# Altium integrated library TI Data Converters Analog to Digital Converter.IntLib: 2198 symbols (part 75 of 164)
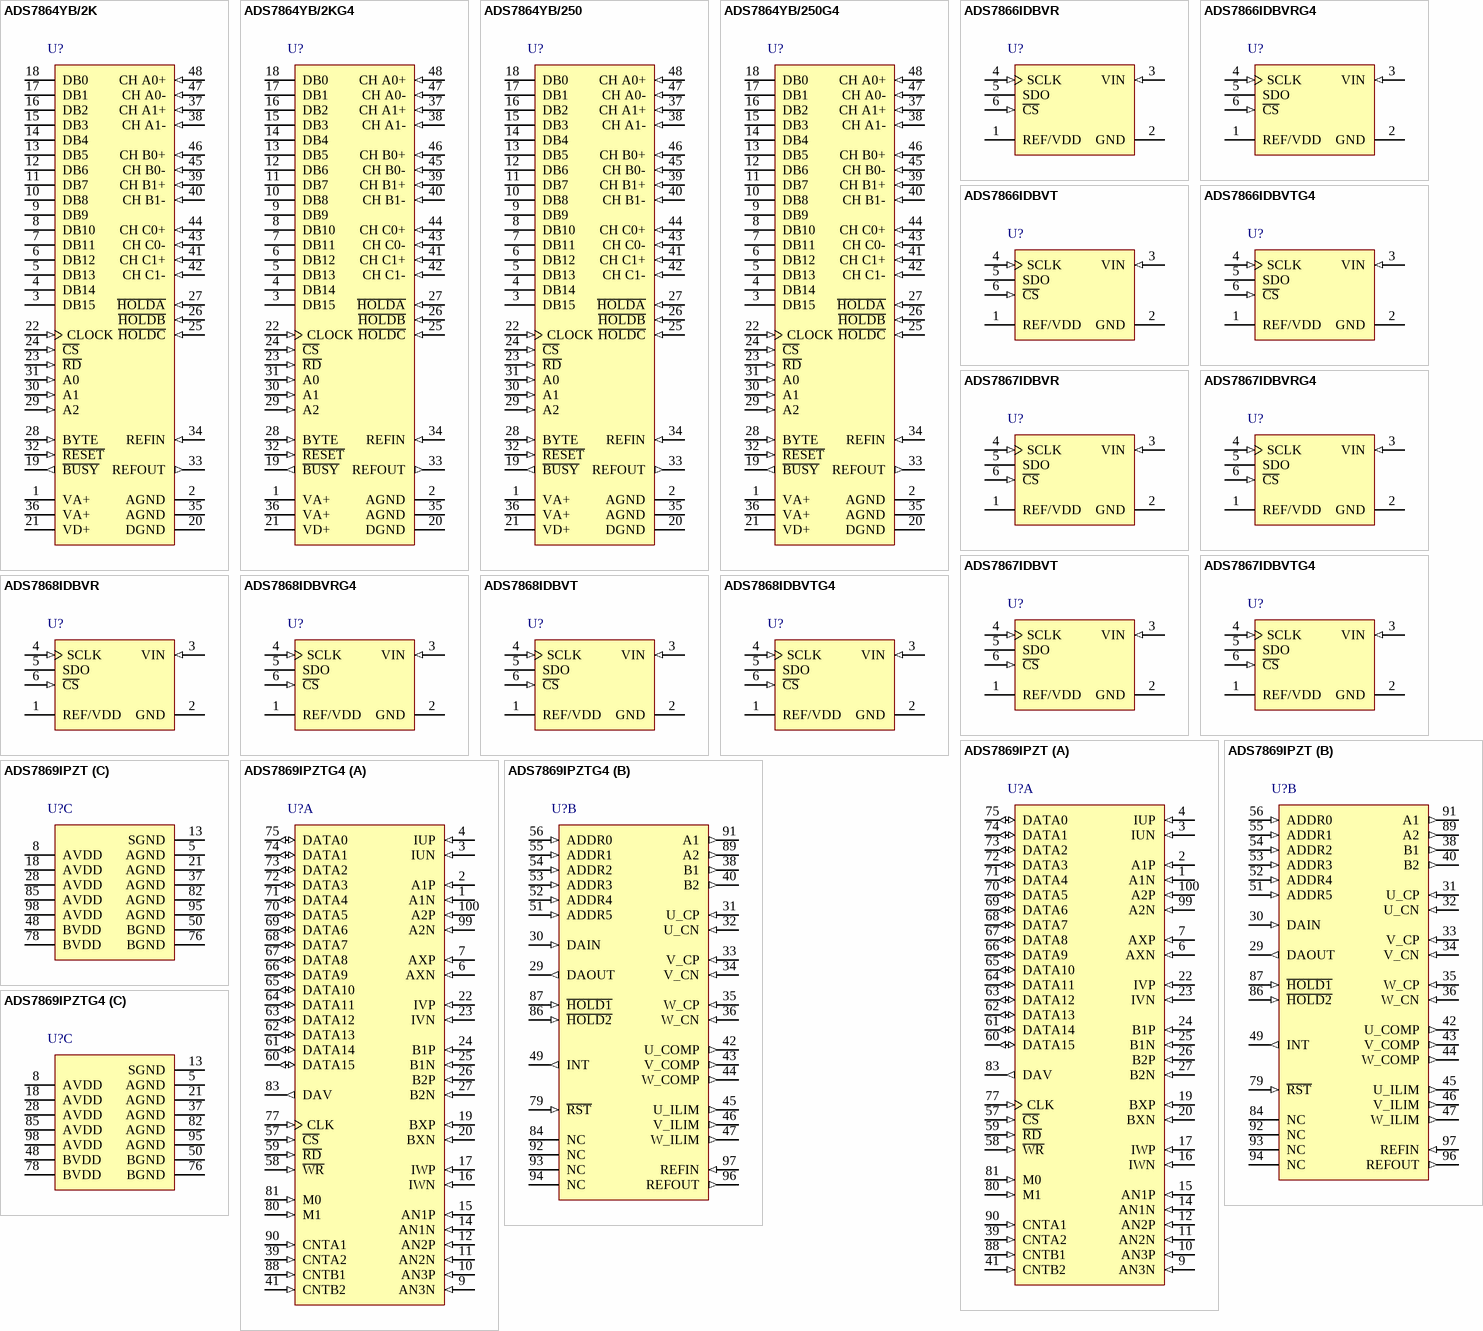
[diagram p200: symbols ADS7864YB/2K to ADS7869IPZTG4]

## ADS7864YB/250G4
designator U?
500 kHz, 12-Bit, 6-Channel Simultaneous Sampling ADC, -40 to 85 degC, 48-pin QFP (PFB48), Green (RoHS & no Sb/Br); Manufacturer: Texas Instruments; PartNumber: ADS7864YB/250G4; # Input Channels: 6; Analog Voltage AV/DD(Max)(V): 5.25; Analog Voltage AV/DD(Min)(V): 4.75; Architecture: SAR; INL(Max)(+/-LSB): 1; Interface: Parallel CMOS; Resolution(Bits): 12; Sample Rate (max)(SPS): 500k; SFDR(dB): 78; SINAD(dB): 71; SubFamily: Precision ADC (<=10MSPS); DatasheetVersion: SBAS141A; PackageVersion: 4073176/B, 10/1996; PackageReference: PFB48; PackageDescription: 48-Pin Plastic Flat Pack, Body 7 x 7 mm, Pitch 0.5 mm; Supplier 1: Digi-Key; Supplier Part Number 1: ADS7862YB/2K-ND; Digital Supply(Max)(V): 5.25; Digital Supply(Min)(V): 4.75; Eco-Plan: Green (RoHS & no Sb/Br); Mounting Technology: Surface Mount; Code_JEDEC: MS-026; ComponentLink1Description: Manufacturer URL; ComponentLink1URL: http://www.ti.com/; ComponentLink2Description: Datasheet; ComponentLink2URL: http://www.ti.com/general/docs/lit/getliterature.tsp?genericPartNumber=ADS7864&fileType=pdf; ComponentLink3Description: Package Specification; ComponentLink3URL: http://www.ti.com/lit/ml/mtqf019a/mtqf019a.pdf
footprint TI-PFB48_N (QFP, 48-Leads, Body 7x7mm, Pitch 0.5mm, IPC Medium Density)
footprint TI-PFB48_L (QFP, 48-Leads, Body 7x7mm, Pitch 0.5mm, IPC High Density)
footprint TI-PFB48_M (QFP, 48-Leads, Body 7x7mm, Pitch 0.5mm, IPC Low Density)
pins: 1 VA+ (power) "Analog Power Supply. Normally +5V.", 2 AGND (power) "Analog Ground", 3 DB15 (hiz) "Data Valid Output: ‘1’ for data valid; ‘0’ for invalid data.", 4 DB14 (hiz) "Channel Address Output Pin (see Table 2)", 5 DB13 (hiz) "Channel Address Output Pin (see Table 2)", 6 DB12 (hiz) "Channel Address Output Pin (see Table 2)", 7 DB11 (hiz) "Data Bit 11 - MSB", 8 DB10 (hiz) "Data Bit 10", 9 DB9 (hiz) "Data Bit 9", 10 DB8 (hiz) "Data Bit 8", 11 DB7 (hiz) "Data Bit 7", 12 DB6 (hiz) "Data Bit 6", 13 DB5 (hiz) "Data Bit 5", 14 DB4 (hiz) "Data Bit 4", 15 DB3 (hiz) "Data Bit 3", 16 DB2 (hiz) "Data Bit 2", 17 DB1 (hiz) "Data Bit 1", 18 DB0 (hiz) "Data Bit 0 - LSB", 19 ~{BUSY} (out) "Low when a conversion is in progress.", 20 DGND (power) "Digital Ground", 21 VD+ (power) "Digital Power Supply, +5VDC", 22 CLOCK (in) "An external clock must be applied to the CLOCK input.", 23 ~{RD} (in) "RD Input. Enables the parallel output when used in conjunction with chip select.", 24 ~{CS} (in) "Chip Select", 25 ~{HOLDC} (in) "Places Channels C0 and C1 in hold mode.", 26 ~{HOLDB} (in) "Places Channels B0 and B1 in hold mode.", 27 ~{HOLDA} (in) "Places Channels A0 and A1 in hold mode.", 28 BYTE (in) "2 x 8 Output Capability. Active high.", 29 A2 (in) "A2 Address/Mode Select Pin (see Table 3).", 30 A1 (in) "A1 Address/Mode Select Pin (see Table 3).", 31 A0 (in) "A0 Address/Mode Select Pin (see Table 3).", 32 ~{RESET} (in) "Reset Pin", 33 REFOUT (out) "Reference Out", 34 REFIN (in) "Reference In", 35 AGND (power) "Analog Ground", 36 VA+ (power) "Analog Power Supply. Normally +5V.", 37 CH A1+ (in) "Noninverting Input Channel A1", 38 CH A1- (in) "Inverting Input Channel A1", 39 CH B1+ (in) "Noninverting Input Channel B1", 40 CH B1- (in) "Inverting Input Channel B1", 41 CH C1+ (in) "Noninverting Input Channel C1", 42 CH C1- (in) "Inverting Input Channel C1", 43 CH C0- (in) "Inverting Input Channel C0", 44 CH C0+ (in) "Noninverting Input Channel C0", 45 CH B0- (in) "Inverting Input Channel B0", 46 CH B0+ (in) "Noninverting Input Channel B0", 47 CH A0- (in) "Inverting Input Channel A0", 48 CH A0+ (in) "Noninverting Input Channel A0"

## ADS7866IDBVR
designator U?
1.2 V, 12-Bit 200 kSPS, Serial ADC, -40 to 85 degC, 6-pin SOT23 (DBV6), Green (RoHS & no Sb/Br); Manufacturer: Texas Instruments; PartNumber: ADS7866IDBVR; # Input Channels: 1; Analog Voltage AV/DD(Max)(V): 3.6; Analog Voltage AV/DD(Min)(V): 1.2; Architecture: SAR; INL(Max)(+/-LSB): 1.5; Interface: Serial SPI; Resolution(Bits): 12; Sample Rate (max)(SPS): 200k; SFDR(dB): 85; SINAD(dB): 70; SNR(dB): 71; SubFamily: Precision ADC (<=10MSPS); DatasheetVersion: SLAS465; PackageVersion: 4073253-5/K, 03/2006; PackageReference: DBV6; PackageDescription: 6-Pin Plastic Small Outline, Body 1.6 x 2.9 mm, Pitch 0.95 mm; Supplier 1: Digi-Key; Supplier Part Number 1: ADS7862YB/2KG4-ND; Digital Supply(Max)(V): 3.6; Digital Supply(Min)(V): 1.2; Eco-Plan: Green (RoHS & no Sb/Br); Mounting Technology: Surface Mount; Code_JEDEC: MO-178; ComponentLink1Description: Manufacturer URL; ComponentLink1URL: http://www.ti.com/; ComponentLink2Description: Datasheet; ComponentLink2URL: http://www.ti.com/general/docs/lit/getliterature.tsp?genericPartNumber=ADS7866&fileType=pdf; ComponentLink3Description: Package Specification; ComponentLink3URL: http://www.ti.com/litv/pdf/mpds026h
footprint TI-DBV6_N (SOT23, 6-Leads, Body 2.9x1.6mm, Pitch 0.95mm, IPC Medium Density)
footprint TI-DBV6_L (SOT23, 6-Leads, Body 2.9x1.6mm, Pitch 0.95mm, IPC High Density)
footprint TI-DBV6_M (SOT23, 6-Leads, Body 2.9x1.6mm, Pitch 0.95mm, IPC Low Density)
pins: 1 REF/VDD (power) "External reference input and power supply", 2 GND (power) "Ground for signal and power supply. All analog and digital signals are referred with respect to this pin.", 3 VIN (in) "Analog signal input", 4 SCLK (in) "Serial clock input. This clock is used for clocking data out, and it is the source of conversion clock.", 5 SDO (hiz) "This is the serial data output of the conversion result. The serial stream comes with MSB first. The MSB is clocked out (changed) on the falling edge one SCLK after the sampling period ends. This results in four leading (See Datasheet)", 6 ~{CS} (in) "This is an active low input signal. It is used as a chip select to gate the SCLK input, to initiate a conversion, and to frame output data."

## ADS7866IDBVRG4
designator U?
1.2 V, 12-Bit 200 kSPS, Serial ADC, -40 to 85 degC, 6-pin SOT23 (DBV6), Green (RoHS & no Sb/Br); Manufacturer: Texas Instruments; PartNumber: ADS7866IDBVRG4; # Input Channels: 1; Analog Voltage AV/DD(Max)(V): 3.6; Analog Voltage AV/DD(Min)(V): 1.2; Architecture: SAR; INL(Max)(+/-LSB): 1.5; Interface: Serial SPI; Resolution(Bits): 12; Sample Rate (max)(SPS): 200k; SFDR(dB): 85; SINAD(dB): 70; SNR(dB): 71; SubFamily: Precision ADC (<=10MSPS); DatasheetVersion: SLAS465; PackageVersion: 4073253-5/K, 03/2006; PackageReference: DBV6; PackageDescription: 6-Pin Plastic Small Outline, Body 1.6 x 2.9 mm, Pitch 0.95 mm; Supplier 1: Digi-Key; Supplier Part Number 1: ADS7835ETR-ND; Digital Supply(Max)(V): 3.6; Digital Supply(Min)(V): 1.2; Eco-Plan: Green (RoHS & no Sb/Br); Mounting Technology: Surface Mount; Code_JEDEC: MO-178; ComponentLink1Description: Manufacturer URL; ComponentLink1URL: http://www.ti.com/; ComponentLink2Description: Datasheet; ComponentLink2URL: http://www.ti.com/general/docs/lit/getliterature.tsp?genericPartNumber=ADS7866&fileType=pdf; ComponentLink3Description: Package Specification; ComponentLink3URL: http://www.ti.com/litv/pdf/mpds026h
footprint TI-DBV6_N (SOT23, 6-Leads, Body 2.9x1.6mm, Pitch 0.95mm, IPC Medium Density)
footprint TI-DBV6_L (SOT23, 6-Leads, Body 2.9x1.6mm, Pitch 0.95mm, IPC High Density)
footprint TI-DBV6_M (SOT23, 6-Leads, Body 2.9x1.6mm, Pitch 0.95mm, IPC Low Density)
pins: 1 REF/VDD (power) "External reference input and power supply", 2 GND (power) "Ground for signal and power supply. All analog and digital signals are referred with respect to this pin.", 3 VIN (in) "Analog signal input", 4 SCLK (in) "Serial clock input. This clock is used for clocking data out, and it is the source of conversion clock.", 5 SDO (hiz) "This is the serial data output of the conversion result. The serial stream comes with MSB first. The MSB is clocked out (changed) on the falling edge one SCLK after the sampling period ends. This results in four leading (See Datasheet)", 6 ~{CS} (in) "This is an active low input signal. It is used as a chip select to gate the SCLK input, to initiate a conversion, and to frame output data."

## ADS7866IDBVT
designator U?
1.2 V, 12-Bit 200 kSPS, Serial ADC, -40 to 85 degC, 6-pin SOT23 (DBV6), Green (RoHS & no Sb/Br); Manufacturer: Texas Instruments; PartNumber: ADS7866IDBVT; # Input Channels: 1; Analog Voltage AV/DD(Max)(V): 3.6; Analog Voltage AV/DD(Min)(V): 1.2; Architecture: SAR; INL(Max)(+/-LSB): 1.5; Interface: Serial SPI; Resolution(Bits): 12; Sample Rate (max)(SPS): 200k; SFDR(dB): 85; SINAD(dB): 70; SNR(dB): 71; SubFamily: Precision ADC (<=10MSPS); DatasheetVersion: SLAS465; PackageVersion: 4073253-5/K, 03/2006; PackageReference: DBV6; PackageDescription: 6-Pin Plastic Small Outline, Body 1.6 x 2.9 mm, Pitch 0.95 mm; Supplier 1: Digi-Key; Supplier Part Number 1: ADS7835E/250G4-ND; Digital Supply(Max)(V): 3.6; Digital Supply(Min)(V): 1.2; Eco-Plan: Green (RoHS & no Sb/Br); Mounting Technology: Surface Mount; Code_JEDEC: MO-178; ComponentLink1Description: Manufacturer URL; ComponentLink1URL: http://www.ti.com/; ComponentLink2Description: Datasheet; ComponentLink2URL: http://www.ti.com/general/docs/lit/getliterature.tsp?genericPartNumber=ADS7866&fileType=pdf; ComponentLink3Description: Package Specification; ComponentLink3URL: http://www.ti.com/litv/pdf/mpds026h
footprint TI-DBV6_N (SOT23, 6-Leads, Body 2.9x1.6mm, Pitch 0.95mm, IPC Medium Density)
footprint TI-DBV6_L (SOT23, 6-Leads, Body 2.9x1.6mm, Pitch 0.95mm, IPC High Density)
footprint TI-DBV6_M (SOT23, 6-Leads, Body 2.9x1.6mm, Pitch 0.95mm, IPC Low Density)
pins: 1 REF/VDD (power) "External reference input and power supply", 2 GND (power) "Ground for signal and power supply. All analog and digital signals are referred with respect to this pin.", 3 VIN (in) "Analog signal input", 4 SCLK (in) "Serial clock input. This clock is used for clocking data out, and it is the source of conversion clock.", 5 SDO (hiz) "This is the serial data output of the conversion result. The serial stream comes with MSB first. The MSB is clocked out (changed) on the falling edge one SCLK after the sampling period ends. This results in four leading (See Datasheet)", 6 ~{CS} (in) "This is an active low input signal. It is used as a chip select to gate the SCLK input, to initiate a conversion, and to frame output data."

## ADS7866IDBVTG4
designator U?
1.2 V, 12-Bit 200 kSPS, Serial ADC, -40 to 85 degC, 6-pin SOT23 (DBV6), Green (RoHS & no Sb/Br); Manufacturer: Texas Instruments; PartNumber: ADS7866IDBVTG4; # Input Channels: 1; Analog Voltage AV/DD(Max)(V): 3.6; Analog Voltage AV/DD(Min)(V): 1.2; Architecture: SAR; INL(Max)(+/-LSB): 1.5; Interface: Serial SPI; Resolution(Bits): 12; Sample Rate (max)(SPS): 200k; SFDR(dB): 85; SINAD(dB): 70; SNR(dB): 71; SubFamily: Precision ADC (<=10MSPS); DatasheetVersion: SLAS465; PackageVersion: 4073253-5/K, 03/2006; PackageReference: DBV6; PackageDescription: 6-Pin Plastic Small Outline, Body 1.6 x 2.9 mm, Pitch 0.95 mm; Supplier 1: Digi-Key; Supplier Part Number 1: ADS7835E/2K5-ND; Digital Supply(Max)(V): 3.6; Digital Supply(Min)(V): 1.2; Eco-Plan: Green (RoHS & no Sb/Br); Mounting Technology: Surface Mount; Code_JEDEC: MO-178; ComponentLink1Description: Manufacturer URL; ComponentLink1URL: http://www.ti.com/; ComponentLink2Description: Datasheet; ComponentLink2URL: http://www.ti.com/general/docs/lit/getliterature.tsp?genericPartNumber=ADS7866&fileType=pdf; ComponentLink3Description: Package Specification; ComponentLink3URL: http://www.ti.com/litv/pdf/mpds026h
footprint TI-DBV6_N (SOT23, 6-Leads, Body 2.9x1.6mm, Pitch 0.95mm, IPC Medium Density)
footprint TI-DBV6_L (SOT23, 6-Leads, Body 2.9x1.6mm, Pitch 0.95mm, IPC High Density)
footprint TI-DBV6_M (SOT23, 6-Leads, Body 2.9x1.6mm, Pitch 0.95mm, IPC Low Density)
pins: 1 REF/VDD (power) "External reference input and power supply", 2 GND (power) "Ground for signal and power supply. All analog and digital signals are referred with respect to this pin.", 3 VIN (in) "Analog signal input", 4 SCLK (in) "Serial clock input. This clock is used for clocking data out, and it is the source of conversion clock.", 5 SDO (hiz) "This is the serial data output of the conversion result. The serial stream comes with MSB first. The MSB is clocked out (changed) on the falling edge one SCLK after the sampling period ends. This results in four leading (See Datasheet)", 6 ~{CS} (in) "This is an active low input signal. It is used as a chip select to gate the SCLK input, to initiate a conversion, and to frame output data."

## ADS7867IDBVR
designator U?
1.2 V, 10-Bit 240 kSPS, Serial ADC, -40 to 85 degC, 6-pin SOT23 (DBV6), Green (RoHS & no Sb/Br); Manufacturer: Texas Instruments; PartNumber: ADS7867IDBVR; # Input Channels: 1; Analog Voltage AV/DD(Max)(V): 3.6; Analog Voltage AV/DD(Min)(V): 1.2; Architecture: SAR; ENOB(Bits): 9.96; INL(Max)(+/-LSB): 0.5; Interface: Serial SPI; Resolution(Bits): 10; Sample Rate (max)(SPS): 240k; SFDR(dB): 80; SINAD(dB): 61.7; SNR(dB): 61.8; SubFamily: Precision ADC (<=10MSPS); DatasheetVersion: SLAS465; PackageVersion: 4073253-5/K, 03/2006; PackageReference: DBV6; PackageDescription: 6-Pin Plastic Small Outline, Body 1.6 x 2.9 mm, Pitch 0.95 mm; Supplier 1: Digi-Key; Supplier Part Number 1: ADS7835E/2K5G4-ND; Digital Supply(Max)(V): 3.6; Digital Supply(Min)(V): 1.2; Eco-Plan: Green (RoHS & no Sb/Br); Mounting Technology: Surface Mount; Code_JEDEC: MO-178; ComponentLink1Description: Manufacturer URL; ComponentLink1URL: http://www.ti.com/; ComponentLink2Description: Datasheet; ComponentLink2URL: http://www.ti.com/general/docs/lit/getliterature.tsp?genericPartNumber=ADS7867&fileType=pdf; ComponentLink3Description: Package Specification; ComponentLink3URL: http://www.ti.com/litv/pdf/mpds026h
footprint TI-DBV6_N (SOT23, 6-Leads, Body 2.9x1.6mm, Pitch 0.95mm, IPC Medium Density)
footprint TI-DBV6_L (SOT23, 6-Leads, Body 2.9x1.6mm, Pitch 0.95mm, IPC High Density)
footprint TI-DBV6_M (SOT23, 6-Leads, Body 2.9x1.6mm, Pitch 0.95mm, IPC Low Density)
pins: 1 REF/VDD (power) "External reference input and power supply", 2 GND (power) "Ground for signal and power supply. All analog and digital signals are referred with respect to this pin.", 3 VIN (in) "Analog signal input", 4 SCLK (in) "Serial clock input. This clock is used for clocking data out, and it is the source of conversion clock.", 5 SDO (hiz) "This is the serial data output of the conversion result. The serial stream comes with MSB first. The MSB is clocked out (changed) on the falling edge one SCLK after the sampling period ends. This results in four leading (See Datasheet)", 6 ~{CS} (in) "This is an active low input signal. It is used as a chip select to gate the SCLK input, to initiate a conversion, and to frame output data."

## ADS7867IDBVRG4
designator U?
1.2 V, 10-Bit 240 kSPS, Serial ADC, -40 to 85 degC, 6-pin SOT23 (DBV6), Green (RoHS & no Sb/Br); Manufacturer: Texas Instruments; PartNumber: ADS7867IDBVRG4; # Input Channels: 1; Analog Voltage AV/DD(Max)(V): 3.6; Analog Voltage AV/DD(Min)(V): 1.2; Architecture: SAR; ENOB(Bits): 9.96; INL(Max)(+/-LSB): 0.5; Interface: Serial SPI; Resolution(Bits): 10; Sample Rate (max)(SPS): 240k; SFDR(dB): 80; SINAD(dB): 61.7; SNR(dB): 61.8; SubFamily: Precision ADC (<=10MSPS); DatasheetVersion: SLAS465; PackageVersion: 4073253-5/K, 03/2006; PackageReference: DBV6; PackageDescription: 6-Pin Plastic Small Outline, Body 1.6 x 2.9 mm, Pitch 0.95 mm; Supplier 1: Digi-Key; Supplier Part Number 1: ADS7835EBTR-ND; Digital Supply(Max)(V): 3.6; Digital Supply(Min)(V): 1.2; Eco-Plan: Green (RoHS & no Sb/Br); Mounting Technology: Surface Mount; Code_JEDEC: MO-178; ComponentLink1Description: Manufacturer URL; ComponentLink1URL: http://www.ti.com/; ComponentLink2Description: Datasheet; ComponentLink2URL: http://www.ti.com/general/docs/lit/getliterature.tsp?genericPartNumber=ADS7867&fileType=pdf; ComponentLink3Description: Package Specification; ComponentLink3URL: http://www.ti.com/litv/pdf/mpds026h
footprint TI-DBV6_N (SOT23, 6-Leads, Body 2.9x1.6mm, Pitch 0.95mm, IPC Medium Density)
footprint TI-DBV6_L (SOT23, 6-Leads, Body 2.9x1.6mm, Pitch 0.95mm, IPC High Density)
footprint TI-DBV6_M (SOT23, 6-Leads, Body 2.9x1.6mm, Pitch 0.95mm, IPC Low Density)
pins: 1 REF/VDD (power) "External reference input and power supply", 2 GND (power) "Ground for signal and power supply. All analog and digital signals are referred with respect to this pin.", 3 VIN (in) "Analog signal input", 4 SCLK (in) "Serial clock input. This clock is used for clocking data out, and it is the source of conversion clock.", 5 SDO (hiz) "This is the serial data output of the conversion result. The serial stream comes with MSB first. The MSB is clocked out (changed) on the falling edge one SCLK after the sampling period ends. This results in four leading (See Datasheet)", 6 ~{CS} (in) "This is an active low input signal. It is used as a chip select to gate the SCLK input, to initiate a conversion, and to frame output data."

## ADS7867IDBVT
designator U?
1.2 V, 10-Bit 240 kSPS, Serial ADC, -40 to 85 degC, 6-pin SOT23 (DBV6), Green (RoHS & no Sb/Br); Manufacturer: Texas Instruments; PartNumber: ADS7867IDBVT; # Input Channels: 1; Analog Voltage AV/DD(Max)(V): 3.6; Analog Voltage AV/DD(Min)(V): 1.2; Architecture: SAR; ENOB(Bits): 9.96; INL(Max)(+/-LSB): 0.5; Interface: Serial SPI; Resolution(Bits): 10; Sample Rate (max)(SPS): 240k; SFDR(dB): 80; SINAD(dB): 61.7; SNR(dB): 61.8; SubFamily: Precision ADC (<=10MSPS); DatasheetVersion: SLAS465; PackageVersion: 4073253-5/K, 03/2006; PackageReference: DBV6; PackageDescription: 6-Pin Plastic Small Outline, Body 1.6 x 2.9 mm, Pitch 0.95 mm; Supplier 1: Digi-Key; Supplier Part Number 1: ADS7835EB/250G4-ND; Digital Supply(Max)(V): 3.6; Digital Supply(Min)(V): 1.2; Eco-Plan: Green (RoHS & no Sb/Br); Mounting Technology: Surface Mount; Code_JEDEC: MO-178; ComponentLink1Description: Manufacturer URL; ComponentLink1URL: http://www.ti.com/; ComponentLink2Description: Datasheet; ComponentLink2URL: http://www.ti.com/general/docs/lit/getliterature.tsp?genericPartNumber=ADS7867&fileType=pdf; ComponentLink3Description: Package Specification; ComponentLink3URL: http://www.ti.com/litv/pdf/mpds026h
footprint TI-DBV6_N (SOT23, 6-Leads, Body 2.9x1.6mm, Pitch 0.95mm, IPC Medium Density)
footprint TI-DBV6_L (SOT23, 6-Leads, Body 2.9x1.6mm, Pitch 0.95mm, IPC High Density)
footprint TI-DBV6_M (SOT23, 6-Leads, Body 2.9x1.6mm, Pitch 0.95mm, IPC Low Density)
pins: 1 REF/VDD (power) "External reference input and power supply", 2 GND (power) "Ground for signal and power supply. All analog and digital signals are referred with respect to this pin.", 3 VIN (in) "Analog signal input", 4 SCLK (in) "Serial clock input. This clock is used for clocking data out, and it is the source of conversion clock.", 5 SDO (hiz) "This is the serial data output of the conversion result. The serial stream comes with MSB first. The MSB is clocked out (changed) on the falling edge one SCLK after the sampling period ends. This results in four leading (See Datasheet)", 6 ~{CS} (in) "This is an active low input signal. It is used as a chip select to gate the SCLK input, to initiate a conversion, and to frame output data."

## ADS7867IDBVTG4
designator U?
1.2 V, 10-Bit 240 kSPS, Serial ADC, -40 to 85 degC, 6-pin SOT23 (DBV6), Green (RoHS & no Sb/Br); Manufacturer: Texas Instruments; PartNumber: ADS7867IDBVTG4; # Input Channels: 1; Analog Voltage AV/DD(Max)(V): 3.6; Analog Voltage AV/DD(Min)(V): 1.2; Architecture: SAR; ENOB(Bits): 9.96; INL(Max)(+/-LSB): 0.5; Interface: Serial SPI; Resolution(Bits): 10; Sample Rate (max)(SPS): 240k; SFDR(dB): 80; SINAD(dB): 61.7; SNR(dB): 61.8; SubFamily: Precision ADC (<=10MSPS); DatasheetVersion: SLAS465; PackageVersion: 4073253-5/K, 03/2006; PackageReference: DBV6; PackageDescription: 6-Pin Plastic Small Outline, Body 1.6 x 2.9 mm, Pitch 0.95 mm; Supplier 1: Digi-Key; Supplier Part Number 1: ADS7835EB/2K5-ND; Digital Supply(Max)(V): 3.6; Digital Supply(Min)(V): 1.2; Eco-Plan: Green (RoHS & no Sb/Br); Mounting Technology: Surface Mount; Code_JEDEC: MO-178; ComponentLink1Description: Manufacturer URL; ComponentLink1URL: http://www.ti.com/; ComponentLink2Description: Datasheet; ComponentLink2URL: http://www.ti.com/general/docs/lit/getliterature.tsp?genericPartNumber=ADS7867&fileType=pdf; ComponentLink3Description: Package Specification; ComponentLink3URL: http://www.ti.com/litv/pdf/mpds026h
footprint TI-DBV6_N (SOT23, 6-Leads, Body 2.9x1.6mm, Pitch 0.95mm, IPC Medium Density)
footprint TI-DBV6_L (SOT23, 6-Leads, Body 2.9x1.6mm, Pitch 0.95mm, IPC High Density)
footprint TI-DBV6_M (SOT23, 6-Leads, Body 2.9x1.6mm, Pitch 0.95mm, IPC Low Density)
pins: 1 REF/VDD (power) "External reference input and power supply", 2 GND (power) "Ground for signal and power supply. All analog and digital signals are referred with respect to this pin.", 3 VIN (in) "Analog signal input", 4 SCLK (in) "Serial clock input. This clock is used for clocking data out, and it is the source of conversion clock.", 5 SDO (hiz) "This is the serial data output of the conversion result. The serial stream comes with MSB first. The MSB is clocked out (changed) on the falling edge one SCLK after the sampling period ends. This results in four leading (See Datasheet)", 6 ~{CS} (in) "This is an active low input signal. It is used as a chip select to gate the SCLK input, to initiate a conversion, and to frame output data."

## ADS7868IDBVR
designator U?
1.2 V, 8-Bit 280 kSPS, Serial ADC, -40 to 85 degC, 6-pin SOT23 (DBV6), Green (RoHS & no Sb/Br); Manufacturer: Texas Instruments; PartNumber: ADS7868IDBVR; # Input Channels: 1; Analog Voltage AV/DD(Max)(V): 3.6; Analog Voltage AV/DD(Min)(V): 1.2; Architecture: SAR; INL(Max)(+/-LSB): 0.5; Interface: Serial SPI; Resolution(Bits): 8; Sample Rate (max)(SPS): 280k; SFDR(dB): 67; SINAD(dB): 49.4; SNR(dB): 49.8; SubFamily: Precision ADC (<=10MSPS); DatasheetVersion: SLAS465; PackageVersion: 4073253-5/K, 03/2006; PackageReference: DBV6; PackageDescription: 6-Pin Plastic Small Outline, Body 1.6 x 2.9 mm, Pitch 0.95 mm; Supplier 1: Digi-Key; Supplier Part Number 1: ADS7835EB/2K5G4-ND; Digital Supply(Max)(V): 3.6; Digital Supply(Min)(V): 1.2; Eco-Plan: Green (RoHS & no Sb/Br); Mounting Technology: Surface Mount; Code_JEDEC: MO-178; ComponentLink1Description: Manufacturer URL; ComponentLink1URL: http://www.ti.com/; ComponentLink2Description: Datasheet; ComponentLink2URL: http://www.ti.com/general/docs/lit/getliterature.tsp?genericPartNumber=ADS7868&fileType=pdf; ComponentLink3Description: Package Specification; ComponentLink3URL: http://www.ti.com/litv/pdf/mpds026h
footprint TI-DBV6_N (SOT23, 6-Leads, Body 2.9x1.6mm, Pitch 0.95mm, IPC Medium Density)
footprint TI-DBV6_L (SOT23, 6-Leads, Body 2.9x1.6mm, Pitch 0.95mm, IPC High Density)
footprint TI-DBV6_M (SOT23, 6-Leads, Body 2.9x1.6mm, Pitch 0.95mm, IPC Low Density)
pins: 1 REF/VDD (power) "External reference input and power supply", 2 GND (power) "Ground for signal and power supply. All analog and digital signals are referred with respect to this pin.", 3 VIN (in) "Analog signal input", 4 SCLK (in) "Serial clock input. This clock is used for clocking data out, and it is the source of conversion clock.", 5 SDO (hiz) "This is the serial data output of the conversion result. The serial stream comes with MSB first. The MSB is clocked out (changed) on the falling edge one SCLK after the sampling period ends. This results in four leading (See Datasheet)", 6 ~{CS} (in) "This is an active low input signal. It is used as a chip select to gate the SCLK input, to initiate a conversion, and to frame output data."

## ADS7868IDBVRG4
designator U?
1.2 V, 8-Bit 280 kSPS, Serial ADC, -40 to 85 degC, 6-pin SOT23 (DBV6), Green (RoHS & no Sb/Br); Manufacturer: Texas Instruments; PartNumber: ADS7868IDBVRG4; # Input Channels: 1; Analog Voltage AV/DD(Max)(V): 3.6; Analog Voltage AV/DD(Min)(V): 1.2; Architecture: SAR; INL(Max)(+/-LSB): 0.5; Interface: Serial SPI; Resolution(Bits): 8; Sample Rate (max)(SPS): 280k; SFDR(dB): 67; SINAD(dB): 49.4; SNR(dB): 49.8; SubFamily: Precision ADC (<=10MSPS); DatasheetVersion: SLAS465; PackageVersion: 4073253-5/K, 03/2006; PackageReference: DBV6; PackageDescription: 6-Pin Plastic Small Outline, Body 1.6 x 2.9 mm, Pitch 0.95 mm; Supplier 1: Digi-Key; Supplier Part Number 1: ADS7842E-ND; Digital Supply(Max)(V): 3.6; Digital Supply(Min)(V): 1.2; Eco-Plan: Green (RoHS & no Sb/Br); Mounting Technology: Surface Mount; Code_JEDEC: MO-178; ComponentLink1Description: Manufacturer URL; ComponentLink1URL: http://www.ti.com/; ComponentLink2Description: Datasheet; ComponentLink2URL: http://www.ti.com/general/docs/lit/getliterature.tsp?genericPartNumber=ADS7868&fileType=pdf; ComponentLink3Description: Package Specification; ComponentLink3URL: http://www.ti.com/litv/pdf/mpds026h
footprint TI-DBV6_N (SOT23, 6-Leads, Body 2.9x1.6mm, Pitch 0.95mm, IPC Medium Density)
footprint TI-DBV6_L (SOT23, 6-Leads, Body 2.9x1.6mm, Pitch 0.95mm, IPC High Density)
footprint TI-DBV6_M (SOT23, 6-Leads, Body 2.9x1.6mm, Pitch 0.95mm, IPC Low Density)
pins: 1 REF/VDD (power) "External reference input and power supply", 2 GND (power) "Ground for signal and power supply. All analog and digital signals are referred with respect to this pin.", 3 VIN (in) "Analog signal input", 4 SCLK (in) "Serial clock input. This clock is used for clocking data out, and it is the source of conversion clock.", 5 SDO (hiz) "This is the serial data output of the conversion result. The serial stream comes with MSB first. The MSB is clocked out (changed) on the falling edge one SCLK after the sampling period ends. This results in four leading (See Datasheet)", 6 ~{CS} (in) "This is an active low input signal. It is used as a chip select to gate the SCLK input, to initiate a conversion, and to frame output data."

## ADS7868IDBVT
designator U?
1.2 V, 8-Bit 280 kSPS, Serial ADC, -40 to 85 degC, 6-pin SOT23 (DBV6), Green (RoHS & no Sb/Br); Manufacturer: Texas Instruments; PartNumber: ADS7868IDBVT; # Input Channels: 1; Analog Voltage AV/DD(Max)(V): 3.6; Analog Voltage AV/DD(Min)(V): 1.2; Architecture: SAR; INL(Max)(+/-LSB): 0.5; Interface: Serial SPI; Resolution(Bits): 8; Sample Rate (max)(SPS): 280k; SFDR(dB): 67; SINAD(dB): 49.4; SNR(dB): 49.8; SubFamily: Precision ADC (<=10MSPS); DatasheetVersion: SLAS465; PackageVersion: 4073253-5/K, 03/2006; PackageReference: DBV6; PackageDescription: 6-Pin Plastic Small Outline, Body 1.6 x 2.9 mm, Pitch 0.95 mm; Supplier 1: Digi-Key; Supplier Part Number 1: ADS7842E/1K-ND; Digital Supply(Max)(V): 3.6; Digital Supply(Min)(V): 1.2; Eco-Plan: Green (RoHS & no Sb/Br); Mounting Technology: Surface Mount; Code_JEDEC: MO-178; ComponentLink1Description: Manufacturer URL; ComponentLink1URL: http://www.ti.com/; ComponentLink2Description: Datasheet; ComponentLink2URL: http://www.ti.com/general/docs/lit/getliterature.tsp?genericPartNumber=ADS7868&fileType=pdf; ComponentLink3Description: Package Specification; ComponentLink3URL: http://www.ti.com/litv/pdf/mpds026h
footprint TI-DBV6_N (SOT23, 6-Leads, Body 2.9x1.6mm, Pitch 0.95mm, IPC Medium Density)
footprint TI-DBV6_L (SOT23, 6-Leads, Body 2.9x1.6mm, Pitch 0.95mm, IPC High Density)
footprint TI-DBV6_M (SOT23, 6-Leads, Body 2.9x1.6mm, Pitch 0.95mm, IPC Low Density)
pins: 1 REF/VDD (power) "External reference input and power supply", 2 GND (power) "Ground for signal and power supply. All analog and digital signals are referred with respect to this pin.", 3 VIN (in) "Analog signal input", 4 SCLK (in) "Serial clock input. This clock is used for clocking data out, and it is the source of conversion clock.", 5 SDO (hiz) "This is the serial data output of the conversion result. The serial stream comes with MSB first. The MSB is clocked out (changed) on the falling edge one SCLK after the sampling period ends. This results in four leading (See Datasheet)", 6 ~{CS} (in) "This is an active low input signal. It is used as a chip select to gate the SCLK input, to initiate a conversion, and to frame output data."

## ADS7868IDBVTG4
designator U?
1.2 V, 8-Bit 280 kSPS, Serial ADC, -40 to 85 degC, 6-pin SOT23 (DBV6), Green (RoHS & no Sb/Br); Manufacturer: Texas Instruments; PartNumber: ADS7868IDBVTG4; # Input Channels: 1; Analog Voltage AV/DD(Max)(V): 3.6; Analog Voltage AV/DD(Min)(V): 1.2; Architecture: SAR; INL(Max)(+/-LSB): 0.5; Interface: Serial SPI; Resolution(Bits): 8; Sample Rate (max)(SPS): 280k; SFDR(dB): 67; SINAD(dB): 49.4; SNR(dB): 49.8; SubFamily: Precision ADC (<=10MSPS); DatasheetVersion: SLAS465; PackageVersion: 4073253-5/K, 03/2006; PackageReference: DBV6; PackageDescription: 6-Pin Plastic Small Outline, Body 1.6 x 2.9 mm, Pitch 0.95 mm; Supplier 1: Digi-Key; Supplier Part Number 1: ADS7842E/1KG4-ND; Digital Supply(Max)(V): 3.6; Digital Supply(Min)(V): 1.2; Eco-Plan: Green (RoHS & no Sb/Br); Mounting Technology: Surface Mount; Code_JEDEC: MO-178; ComponentLink1Description: Manufacturer URL; ComponentLink1URL: http://www.ti.com/; ComponentLink2Description: Datasheet; ComponentLink2URL: http://www.ti.com/general/docs/lit/getliterature.tsp?genericPartNumber=ADS7868&fileType=pdf; ComponentLink3Description: Package Specification; ComponentLink3URL: http://www.ti.com/litv/pdf/mpds026h
footprint TI-DBV6_N (SOT23, 6-Leads, Body 2.9x1.6mm, Pitch 0.95mm, IPC Medium Density)
footprint TI-DBV6_L (SOT23, 6-Leads, Body 2.9x1.6mm, Pitch 0.95mm, IPC High Density)
footprint TI-DBV6_M (SOT23, 6-Leads, Body 2.9x1.6mm, Pitch 0.95mm, IPC Low Density)
pins: 1 REF/VDD (power) "External reference input and power supply", 2 GND (power) "Ground for signal and power supply. All analog and digital signals are referred with respect to this pin.", 3 VIN (in) "Analog signal input", 4 SCLK (in) "Serial clock input. This clock is used for clocking data out, and it is the source of conversion clock.", 5 SDO (hiz) "This is the serial data output of the conversion result. The serial stream comes with MSB first. The MSB is clocked out (changed) on the falling edge one SCLK after the sampling period ends. This results in four leading (See Datasheet)", 6 ~{CS} (in) "This is an active low input signal. It is used as a chip select to gate the SCLK input, to initiate a conversion, and to frame output data."

## ADS7869IPZT
designator U?
12-Channel 7 Simultaneous Sampling, Analog Motor Control Front End, 1 MSPS, 12-Bit ADC, -40 to 85 degC, 100-pin QFP (PZT100), Green (RoHS & no Sb/Br); Manufacturer: Texas Instruments; PartNumber: ADS7869IPZT; # Input Channels: 12; Analog Voltage AV/DD(Max)(V): 5.5; Analog Voltage AV/DD(Min)(V): 4.5; Architecture: SAR; Digital Supply(Min)(V): 2.7; INL(Max)(+/-LSB): 2.5; Interface: Parallel CMOS, Serial SPI; Sample Rate (max)(SPS): 1M; SINAD(dB): 70; SNR(dB): 71; SubFamily: Precision ADC (<=10MSPS); DatasheetVersion: SBAS253E; PackageVersion: 4073179/B, 11/1996; PackageReference: PZT100; PackageDescription: 100-Pin Plastic Quad Flatpack, Body 14 x 14 mm, Pitch 0.5 mm; Supplier 1: Digi-Key; Supplier Part Number 1: ADS7842EB-ND; Digital Supply(Max)(V): 5.5; Eco-Plan: Green (RoHS & no Sb/Br); Resolution(Bits): 12; Mounting Technology: Surface Mount; Code_JEDEC: MS-026; ComponentLink1Description: Manufacturer URL; ComponentLink1URL: http://www.ti.com/; ComponentLink2Description: Datasheet; ComponentLink2URL: http://www.ti.com/general/docs/lit/getliterature.tsp?genericPartNumber=ADS7869&fileType=pdf; ComponentLink3Description: Package Specification; ComponentLink3URL: http://www.ti.com/litv/pdf/mtqf012b
footprint TI-PZT100_N (QFP, 100-Leads, Body 14x14mm, Pitch 0.5mm, IPC Medium Density)
footprint TI-PZT100_L (QFP, 100-Leads, Body 14x14mm, Pitch 0.5mm, IPC High Density)
footprint TI-PZT100_M (QFP, 100-Leads, Body 14x14mm, Pitch 0.5mm, IPC Low Density)
part A pins: 1 A1N (in) "Position Sensor 1, Analog Input of SIN, Negative Input", 2 A1P (in) "Position Sensor 1, Analog Input of SIN, Positive Input", 3 IUN (in) "Phase U Current, Negative Input", 4 IUP (in) "Phase U Current, Positive Input", 6 AXN (in) "Position Sensor X, Asynchronous Analog Input of SIN, Negative Input", 7 AXP (in) "Position Sensor X, Asynchronous Analog Input of SIN, Positive Input", 9 AN3N (in) "Auxiliary Analog Input Channel (3), Negative Input", 10 AN3P (in) "Auxiliary Analog Input Channel (3), Positive Input", 11 AN2N (in) "Auxiliary Analog Input Channel (2), Negative Input", 12 AN2P (in) "Auxiliary Analog Input Channel (2), Positive Input", 14 AN1N (in) "Auxiliary Analog Input Channel (1), Negative Input", 15 AN1P (in) "Auxiliary Analog Input Channel (1), Positive Input", 16 IWN (in) "Phase W Current, Negative Input", 17 IWP (in) "Phase W Current, Positive Input", 19 BXP (in) "Position Sensor X, Asynchronous Analog Input of COS, Positive Input", 20 BXN (in) "Position Sensor X, Asynchronous Analog Input of COS, Negative Input", 22 IVP (in) "Phase V Current, Positive Input", 23 IVN (in) "Phase V Current, Negative Input", 24 B1P (in) "Position Sensor 1, Analog Input of COS, Positive Input", 25 B1N (in) "Position Sensor 1, Analog Input of COS, Negative Input", 26 B2P (in) "Position Sensor 2, Analog Input of COS, Positive Input", 27 B2N (in) "Position Sensor 2, Analog Input of COS, Negative Input", 39 CNTA2 (in) "Input Signal SIN to 16-bit Up/Down Counter 2", 41 CNTB2 (in) "Input Signal COS to 16-bit Up/Down Counter 2", 57 ~{CS} (in) "Active Low Chip-Select Signal", 58 ~{WR} (in) "Active Low Write Signal", 59 ~{RD} (in) "Active Low Read Signal", 60 DATA15 (io) "Bidirectional 3-state Data Bus", 61 DATA14 (io) "Bidirectional 3-state Data Bus", 62 DATA13 (io) "Bidirectional 3-state Data Bus", 63 DATA12 (io) "Bidirectional 3-state Data Bus", 64 DATA11 (io) "Bidirectional 3-state Data Bus", 65 DATA10 (io) "Bidirectional 3-state Data Bus", 66 DATA9 (io) "Bidirectional 3-state Data Bus", 67 DATA8 (io) "Bidirectional 3-state Data Bus", 68 DATA7 (io) "Bidirectional 3-state Data Bus", 69 DATA6 (io) "Bidirectional 3-state Data Bus", 70 DATA5 (io) "Bidirectional 3-state Data Bus", 71 DATA4 (io) "Bidirectional 3-state Data Bus", 72 DATA3 (io) "Bidirectional 3-state Data Bus", 73 DATA2 (io) "Bidirectional 3-state Data Bus", 74 DATA1 (io) "Bidirectional 3-state Data Bus", 75 DATA0 (io) "Bidirectional 3-state Data Bus", 77 CLK (in) "System Clock", 80 M1 (in) "Mode Select Pins", 81 M0 (in) "Mode Select Pins", 83 DAV (out) "Data Available Signal", 88 CNTB1 (in) "Input Signal COS to 16-bit Up/Down Counter 1", 90 CNTA1 (in) "Input Signal SIN to 16-bit Up/Down Counter 1", 99 A2N (in) "Position Sensor 2, Analog Input of SIN, Negative Input", 100 A2P (in) "Position Sensor 2, Analog Input of SIN, Positive Input"
part B pins: 29 DAOUT (out) "8-Bit DAC Output for Over-Current Limit Value", 30 DAIN (in) "Over-Current Limit Value as Input for Window Comparators", 31 U_CP (in) "Phase U Current Signal Input for Sign and Window Comparator, Positive Input", 32 U_CN (in) "Phase U Current Signal Input for Sign and Window Comparator, Negative Input", 33 V_CP (in) "Phase V Current Signal Input for Sign and Window Comparator, Positive Input", 34 V_CN (in) "Phase V Current Signal Input for Sign and Window Comparator, Negative Input", 35 W_CP (in) "Phase W Current Signal Input for Sign and Window Comparator, Positive Input", 36 W_CN (in) "Phase W Current Signal Input for Sign and Window Comparator, Negative Input", 38 B1 (out) "Sign of COS Signal, Position Sensor 1", 40 B2 (out) "Sign of COS Signal, Position Sensor 2", 42 U_COMP (out) "Sign of Phase U Current", 43 V_COMP (out) "Sign of Phase V Current", 44 W_COMP (out) "Sign of Phase W Current", 45 U_ILIM (out) "Over-current Output of Phase U, Active Low Output", 46 V_ILIM (out) "Over-current Output of Phase V, Active Low Output", 47 W_ILIM (out) "Over-current Output of Phase W, Active Low Output", 49 INT (out) "Active High Interrupt Output", 51 ADDR5 (in) "Address Decode Input", 52 ADDR4 (in) "Address Decode Input", 53 ADDR3 (in) "Address Decode Input", 54 ADDR2 (in) "Address Decode Input", 55 ADDR1 (in) "Address Decode Input", 56 ADDR0 (in) "Address Decode Input", 79 ~{RST} (in) "Active Low Reset Input", 84 NC "No connection (should be left open)", 86 ~{HOLD2} (in) "Active Low Asynchronous Hold Signal for Sample-and-Hold Amplifiers", 87 ~{HOLD1} (in) "Active Low Convert Start and Synchronous Hold Signal for Sample-and-Hold Amplifiers", 89 A2 (out) "Sign of SIN Signal, Position Sensor 2", 91 A1 (out) "Sign of SIN Signal, Position Sensor 1", 92 NC "No connection (should be left open)", 93 NC "No connection (should be left open)", 94 NC "No connection (should be left open)", 96 REFOUT (out) "Reference Voltage Output Pin", 97 REFIN (in) "Reference Voltage Input Pin"
part C pins: 5 AGND (power) "Analog Ground", 8 AVDD (power) "Analog Power Supply", 13 SGND (power) "Signal Ground", 18 AVDD (power) "Analog Power Supply", 21 AGND (power) "Analog Ground", 28 AVDD (power) "Analog Power Supply", 37 AGND (power) "Analog Ground", 48 BVDD (power) "Interface Power Supply", 50 BGND (power) "Interface Ground", 76 BGND (power) "Interface Ground", 78 BVDD (power) "Interface Power Supply", 82 AGND (power) "Analog Ground", 85 AVDD (power) "Analog Power Supply", 95 AGND (power) "Analog Ground", 98 AVDD (power) "Analog Power Supply"

## ADS7869IPZTG4
designator U?
12-Channel 7 Simultaneous Sampling, Analog Motor Control Front End, 1 MSPS, 12-Bit ADC, -40 to 85 degC, 100-pin QFP (PZT100), Green (RoHS & no Sb/Br); Manufacturer: Texas Instruments; PartNumber: ADS7869IPZTG4; # Input Channels: 12; Analog Voltage AV/DD(Max)(V): 5.5; Analog Voltage AV/DD(Min)(V): 4.5; Architecture: SAR; Digital Supply(Min)(V): 2.7; INL(Max)(+/-LSB): 2.5; Interface: Parallel CMOS, Serial SPI; Sample Rate (max)(SPS): 1M; SINAD(dB): 70; SNR(dB): 71; SubFamily: Precision ADC (<=10MSPS); DatasheetVersion: SBAS253E; PackageVersion: 4073179/B, 11/1996; PackageReference: PZT100; PackageDescription: 100-Pin Plastic Quad Flatpack, Body 14 x 14 mm, Pitch 0.5 mm; Supplier 1: Digi-Key; Supplier Part Number 1: ADS7842EB/1K-ND; Digital Supply(Max)(V): 5.5; Eco-Plan: Green (RoHS & no Sb/Br); Resolution(Bits): 12; Mounting Technology: Surface Mount; Code_JEDEC: MS-026; ComponentLink1Description: Manufacturer URL; ComponentLink1URL: http://www.ti.com/; ComponentLink2Description: Datasheet; ComponentLink2URL: http://www.ti.com/general/docs/lit/getliterature.tsp?genericPartNumber=ADS7869&fileType=pdf; ComponentLink3Description: Package Specification; ComponentLink3URL: http://www.ti.com/litv/pdf/mtqf012b
footprint TI-PZT100_N (QFP, 100-Leads, Body 14x14mm, Pitch 0.5mm, IPC Medium Density)
footprint TI-PZT100_L (QFP, 100-Leads, Body 14x14mm, Pitch 0.5mm, IPC High Density)
footprint TI-PZT100_M (QFP, 100-Leads, Body 14x14mm, Pitch 0.5mm, IPC Low Density)
part A pins: 1 A1N (in) "Position Sensor 1, Analog Input of SIN, Negative Input", 2 A1P (in) "Position Sensor 1, Analog Input of SIN, Positive Input", 3 IUN (in) "Phase U Current, Negative Input", 4 IUP (in) "Phase U Current, Positive Input", 6 AXN (in) "Position Sensor X, Asynchronous Analog Input of SIN, Negative Input", 7 AXP (in) "Position Sensor X, Asynchronous Analog Input of SIN, Positive Input", 9 AN3N (in) "Auxiliary Analog Input Channel (3), Negative Input", 10 AN3P (in) "Auxiliary Analog Input Channel (3), Positive Input", 11 AN2N (in) "Auxiliary Analog Input Channel (2), Negative Input", 12 AN2P (in) "Auxiliary Analog Input Channel (2), Positive Input", 14 AN1N (in) "Auxiliary Analog Input Channel (1), Negative Input", 15 AN1P (in) "Auxiliary Analog Input Channel (1), Positive Input", 16 IWN (in) "Phase W Current, Negative Input", 17 IWP (in) "Phase W Current, Positive Input", 19 BXP (in) "Position Sensor X, Asynchronous Analog Input of COS, Positive Input", 20 BXN (in) "Position Sensor X, Asynchronous Analog Input of COS, Negative Input", 22 IVP (in) "Phase V Current, Positive Input", 23 IVN (in) "Phase V Current, Negative Input", 24 B1P (in) "Position Sensor 1, Analog Input of COS, Positive Input", 25 B1N (in) "Position Sensor 1, Analog Input of COS, Negative Input", 26 B2P (in) "Position Sensor 2, Analog Input of COS, Positive Input", 27 B2N (in) "Position Sensor 2, Analog Input of COS, Negative Input", 39 CNTA2 (in) "Input Signal SIN to 16-bit Up/Down Counter 2", 41 CNTB2 (in) "Input Signal COS to 16-bit Up/Down Counter 2", 57 ~{CS} (in) "Active Low Chip-Select Signal", 58 ~{WR} (in) "Active Low Write Signal", 59 ~{RD} (in) "Active Low Read Signal", 60 DATA15 (io) "Bidirectional 3-state Data Bus", 61 DATA14 (io) "Bidirectional 3-state Data Bus", 62 DATA13 (io) "Bidirectional 3-state Data Bus", 63 DATA12 (io) "Bidirectional 3-state Data Bus", 64 DATA11 (io) "Bidirectional 3-state Data Bus", 65 DATA10 (io) "Bidirectional 3-state Data Bus", 66 DATA9 (io) "Bidirectional 3-state Data Bus", 67 DATA8 (io) "Bidirectional 3-state Data Bus", 68 DATA7 (io) "Bidirectional 3-state Data Bus", 69 DATA6 (io) "Bidirectional 3-state Data Bus", 70 DATA5 (io) "Bidirectional 3-state Data Bus", 71 DATA4 (io) "Bidirectional 3-state Data Bus", 72 DATA3 (io) "Bidirectional 3-state Data Bus", 73 DATA2 (io) "Bidirectional 3-state Data Bus", 74 DATA1 (io) "Bidirectional 3-state Data Bus", 75 DATA0 (io) "Bidirectional 3-state Data Bus", 77 CLK (in) "System Clock", 80 M1 (in) "Mode Select Pins", 81 M0 (in) "Mode Select Pins", 83 DAV (out) "Data Available Signal", 88 CNTB1 (in) "Input Signal COS to 16-bit Up/Down Counter 1", 90 CNTA1 (in) "Input Signal SIN to 16-bit Up/Down Counter 1", 99 A2N (in) "Position Sensor 2, Analog Input of SIN, Negative Input", 100 A2P (in) "Position Sensor 2, Analog Input of SIN, Positive Input"
part B pins: 29 DAOUT (out) "8-Bit DAC Output for Over-Current Limit Value", 30 DAIN (in) "Over-Current Limit Value as Input for Window Comparators", 31 U_CP (in) "Phase U Current Signal Input for Sign and Window Comparator, Positive Input", 32 U_CN (in) "Phase U Current Signal Input for Sign and Window Comparator, Negative Input", 33 V_CP (in) "Phase V Current Signal Input for Sign and Window Comparator, Positive Input", 34 V_CN (in) "Phase V Current Signal Input for Sign and Window Comparator, Negative Input", 35 W_CP (in) "Phase W Current Signal Input for Sign and Window Comparator, Positive Input", 36 W_CN (in) "Phase W Current Signal Input for Sign and Window Comparator, Negative Input", 38 B1 (out) "Sign of COS Signal, Position Sensor 1", 40 B2 (out) "Sign of COS Signal, Position Sensor 2", 42 U_COMP (out) "Sign of Phase U Current", 43 V_COMP (out) "Sign of Phase V Current", 44 W_COMP (out) "Sign of Phase W Current", 45 U_ILIM (out) "Over-current Output of Phase U, Active Low Output", 46 V_ILIM (out) "Over-current Output of Phase V, Active Low Output", 47 W_ILIM (out) "Over-current Output of Phase W, Active Low Output", 49 INT (out) "Active High Interrupt Output", 51 ADDR5 (in) "Address Decode Input", 52 ADDR4 (in) "Address Decode Input", 53 ADDR3 (in) "Address Decode Input", 54 ADDR2 (in) "Address Decode Input", 55 ADDR1 (in) "Address Decode Input", 56 ADDR0 (in) "Address Decode Input", 79 ~{RST} (in) "Active Low Reset Input", 84 NC "No connection (should be left open)", 86 ~{HOLD2} (in) "Active Low Asynchronous Hold Signal for Sample-and-Hold Amplifiers", 87 ~{HOLD1} (in) "Active Low Convert Start and Synchronous Hold Signal for Sample-and-Hold Amplifiers", 89 A2 (out) "Sign of SIN Signal, Position Sensor 2", 91 A1 (out) "Sign of SIN Signal, Position Sensor 1", 92 NC "No connection (should be left open)", 93 NC "No connection (should be left open)", 94 NC "No connection (should be left open)", 96 REFOUT (out) "Reference Voltage Output Pin", 97 REFIN (in) "Reference Voltage Input Pin"
part C pins: 5 AGND (power) "Analog Ground", 8 AVDD (power) "Analog Power Supply", 13 SGND (power) "Signal Ground", 18 AVDD (power) "Analog Power Supply", 21 AGND (power) "Analog Ground", 28 AVDD (power) "Analog Power Supply", 37 AGND (power) "Analog Ground", 48 BVDD (power) "Interface Power Supply", 50 BGND (power) "Interface Ground", 76 BGND (power) "Interface Ground", 78 BVDD (power) "Interface Power Supply", 82 AGND (power) "Analog Ground", 85 AVDD (power) "Analog Power Supply", 95 AGND (power) "Analog Ground", 98 AVDD (power) "Analog Power Supply"

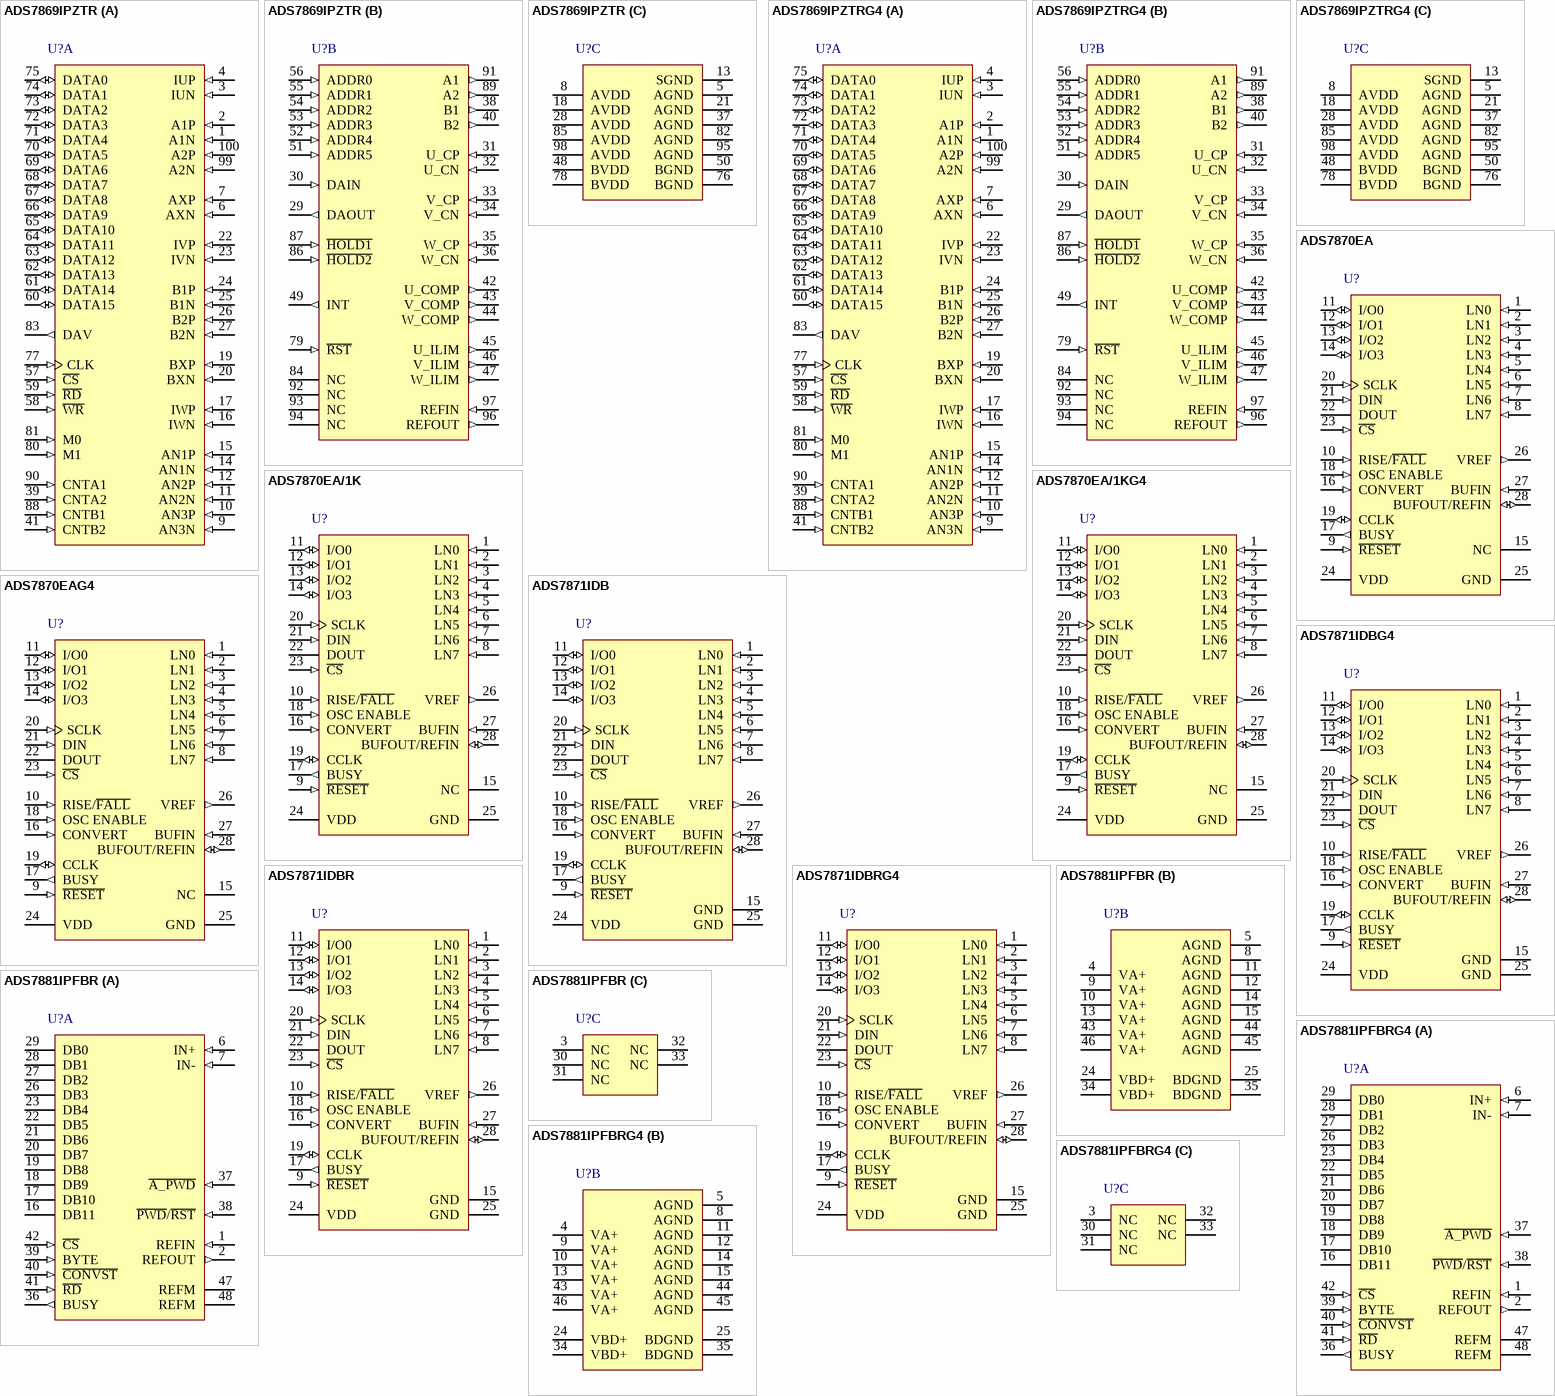
[diagram p69: symbols ADS7869IPZTR to ADS7881IPFBRG4]